# EAGLE library part OPT3101 (library thanics_robotics)
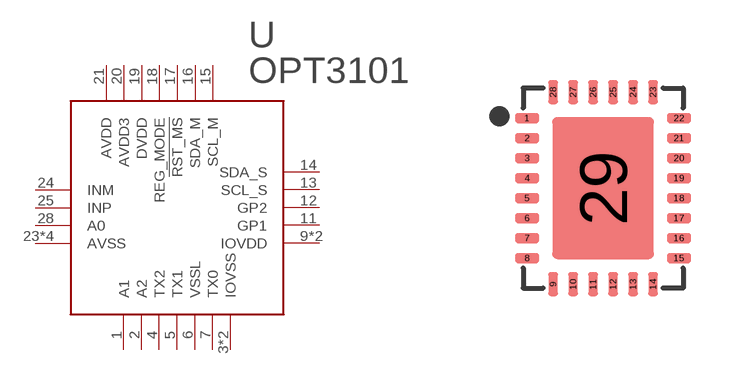
[diagram p42: symbol with the pads of 28-VQFN; footprint 28-VQFN]

Designator prefix -

## OPT3101  [28-VQFN]
1  A1
2  A2
3  IOVSS
4  TX2
5  TX1
6  VSSL
7  TX0
8  IOVSS
9  IOVDD
10  IOVDD
11  GP1
12  GP2
13  SCL_S
14  SDA_S
15  SCL_M
16  SDA_M
17  !RST_MS
18  REG_MODE
19  DVDD
20  AVDD3
21  AVDD
23  AVSS
24  INM
25  INP
26  AVSS
27  AVSS
28  A0
29  AVSS

## Footprint 28-VQFN (pad centres in mm)
smd 0.6 x 0.24: 1 -1.9,1.75; 2 -1.9,1.25; 3 -1.9,0.75; 4 -1.9,0.25; 5 -1.9,-0.25; 6 -1.9,-0.75; 7 -1.9,-1.25; 8 -1.9,-1.75; 15 1.9,-1.75; 16 1.9,-1.25; 17 1.9,-0.75; 18 1.9,-0.25; 19 1.9,0.25; 20 1.9,0.75; 21 1.9,1.25; 22 1.9,1.75
smd 0.24 x 0.6: 9 -1.25,-2.4; 10 -0.75,-2.4; 11 -0.25,-2.4; 12 0.25,-2.4; 13 0.75,-2.4; 14 1.25,-2.4; 23 1.25,2.4; 24 0.75,2.4; 25 0.25,2.4; 26 -0.25,2.4; 27 -0.75,2.4; 28 -1.25,2.4
smd 2.55 x 3.55: 29 0,0